# Altium schematic symbol library Clock.SchLib: 8 symbols
Pins are listed as number, name and electrical type; pins without a type are passive.

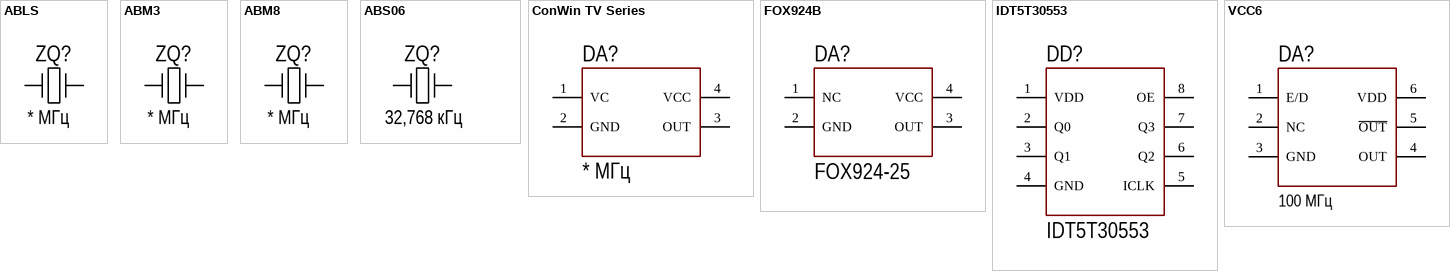
[diagram p0: symbols ABLS to VCC6]

## ABLS
designator ZQ?, comment value * МГц  (hidden comment: ABM8 * МГц)
Quarz Resonator ABLS; Part: ABM8; Capacitance: *
footprint ABLS
pins: 1, 2

## ABM3
designator ZQ?, comment value * МГц  (hidden comment: ABM3 * МГц)
Quarz Resonator ABM3; Part: ABM3; Capacitance: *
footprint ABM3 (ZQ ABM3)
pins: 1, 2

## ABM8
designator ZQ?, comment value * МГц  (hidden comment: ABM8 * МГц)
Quarz Resonator ABM8; Part: ABM8; Capacitance: *
footprint ABM8
pins: 1, 2

## ABS06
designator ZQ?, comment value 32,768 кГц  (hidden comment: ABS06 32,768 кГц)
Quarz Resonator ABS06; Part: ABS06; Capacitance: *
footprint ABS06
pins: 1, 2

## ConWin TV Series
designator DA?, comment Value_SCH: * МГц  (hidden comment: TV604-*)
VCTCXO LVCMOS Oscillator, 3.3V, 4-SMD, No Lead; Stability: 0; Type: TV; Temperature: 6; Features: 4; Value: *
footprint ConWin TV
pins: 1 VC, 2 GND, 3 OUT, 4 VCC

## FOX924B
designator DA?, comment FOX924-25
TCXO HCMOS Oscillator 3.3V; Part: FOX924; Value: 25
footprint FOX924B
pins: 1 NC, 2 GND, 3 OUT, 4 VCC

## IDT5T30553
designator DD?, comment Part: IDT5T30553  (hidden comment: IDT5T30553DCGI)
Low Skew 1 To 4 Clock Buffer, 3.3 V, 200 MHz MAX; Case: DCGI
footprint SOIC-8 (pitch 1.27 mm)
pins: 1 VDD, 2 Q0, 3 Q1, 4 GND, 5 ICLK, 6 Q2, 7 Q3, 8 OE

## VCC6
designator DA?  Value_SCH: 100 МГц  (hidden comment: *)
Differential Clock  Oscillator, 19.44 to 275.00 MHz; Part: VCC6; Voltage: Q; EN: C; Temp: D; Value: 100M0000000
footprint VCC6
pins: 1 E/D (power), 2 NC (power), 3 GND (power), 4 OUT (power), 5 ~{OUT} (power), 6 VDD (power)